# Altium footprint library Passive_Old.PcbLib: 221 footprints (part 13 of 14)
Each footprint in its own frame and in the unit in brackets; x right, y up, seen from the top. Pads: shape width x height; smd on the part's side, far side on the other; paste and mask are expansions set on the pad; w line width, h text height; cw(c..) or ccw(c..) is an arc to the next point about the centre after c.
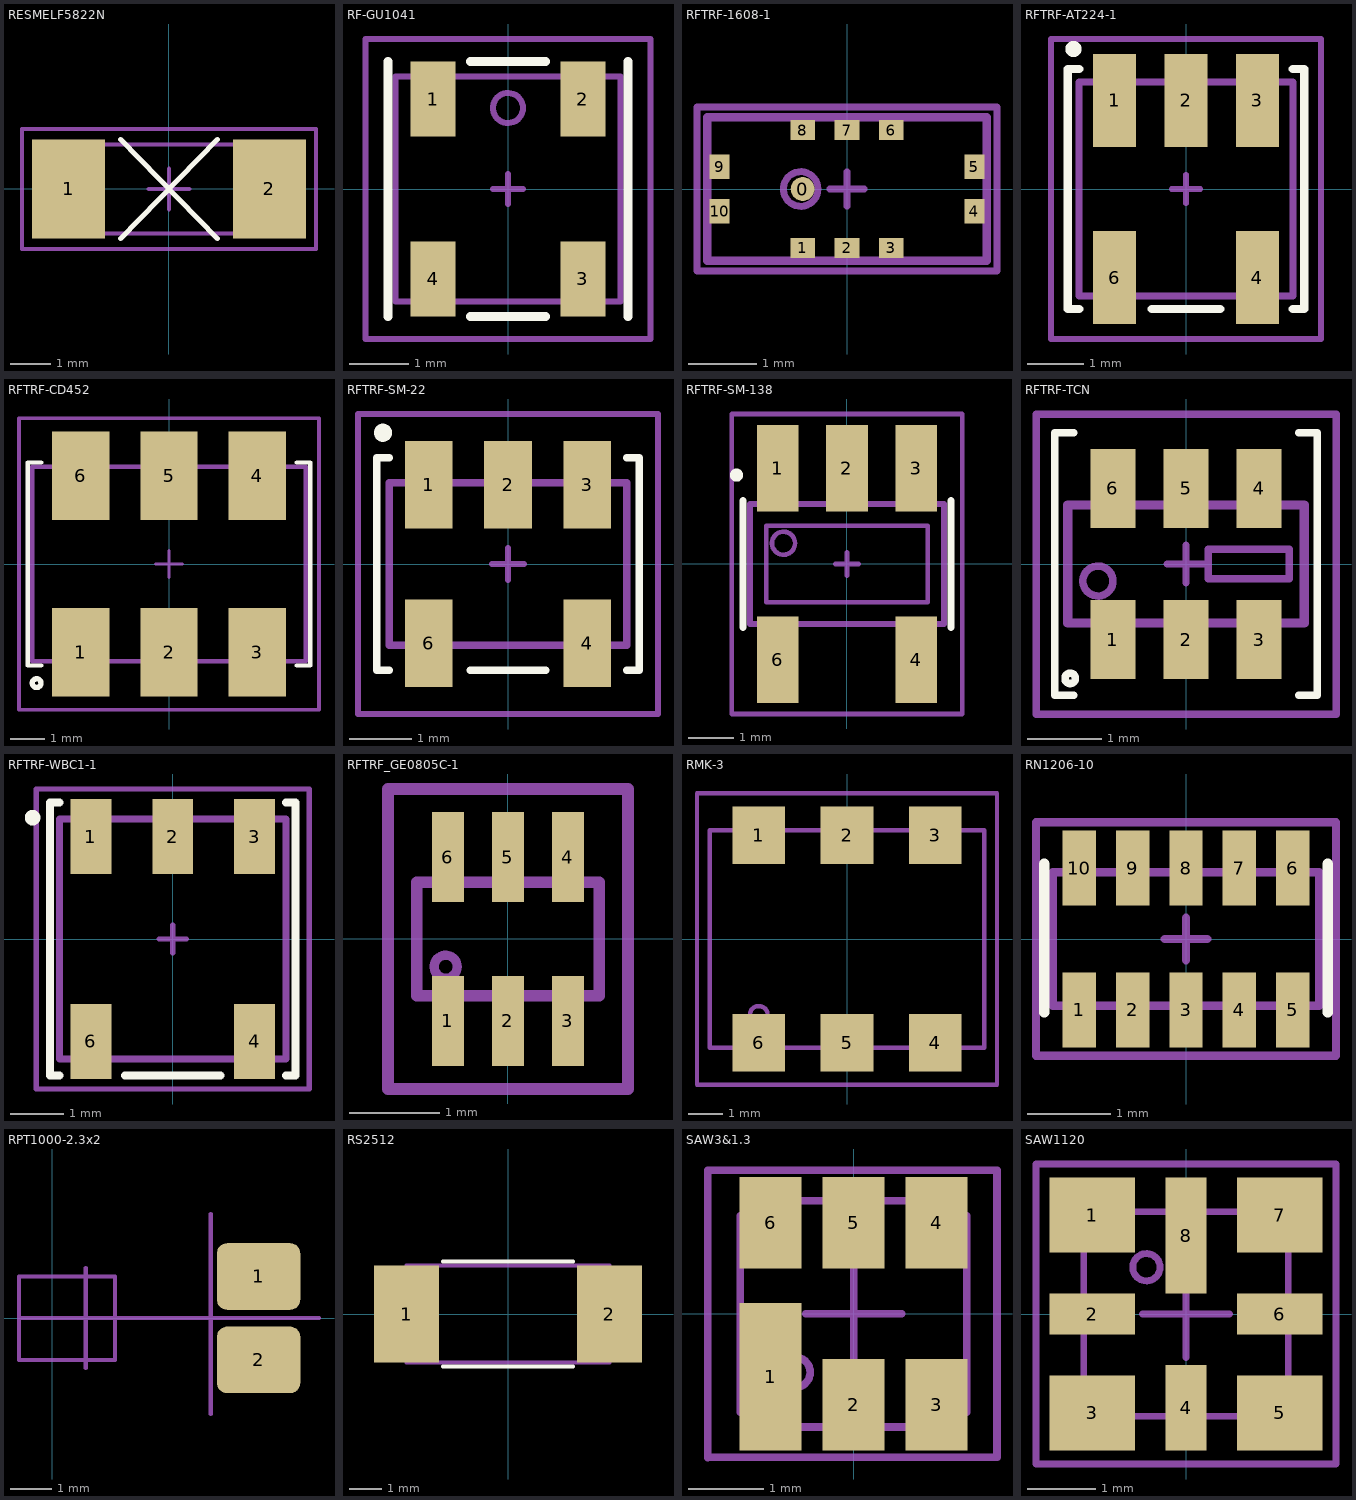
[diagram p12: the footprints below, top view; thin cyan lines are the x and y axes]

## RESMELF5822N [mm] "MELF Resistor, 2-Leads, Body 5,8x2,2mm, IPC Medium Density"
height 2.2
pads (2):
  rect 1.8x2.45 smd: 1(-2.475,0) 2(2.475,0)
Top Overlay:
  lines w0.127: -1.2,1.225 1.2,-1.225 ; -1.2,-1.225 1.2,1.225 -1.2,-1.225
Mechanical 13:
  lines w0.1: -2.9,-1.1 -2.9,1.1 2.9,1.1 2.9,-1.1 -2.9,-1.1
Mechanical 15:
  lines w0.1: -0.5,0 0.5,0 ; 0,-0.5 0,0.5 ; -3.625,-1.475 -3.625,1.475 3.625,1.475 3.625,-1.475 -3.625,-1.475
3D body: height 2.19, standoff 0, extent -2.9,-1.1 -1.8,1.096
3D body: height 2.19, standoff 0, extent 1.8,-1.096 2.9,1.1
3D body: height 2.19, standoff 0, extent -1.8,-1.098 1.8,1.098

## RF-GU1041 [mil] "RF Choke 3.81x3.81mm 4pin"
height 150
pads (4):
  rect 30x50 smd: 1(-50,60) 2(50,60) 3(50,-60) 4(-50,-60)
Top Overlay:
  lines w5.91: -80,-85 -80,85 ; -25,-85 25,-85 ; -25,85 25,85 ; 80,-85 80,85
Mechanical 13:
  circle w4: c0,54 r10
  lines w4: -75,-75 -75,75 75,75 75,-75 -75,-75
Mechanical 15:
  lines w4: -10,0 10,0 ; 0,-10 0,10 ; -95,-100 95,-100 95,100 -95,100 -95,-100
3D body: height 150, standoff 0, extent -75,-75 75,75

## RFTRF-1608-1 [mm] "RF balun 10pin"
height 0.9
pads (11):
  round 0.35 smd: 0(-0.65,0)
  rect 0.36x0.29 smd mask+0.051: 1(-0.65,-0.865) 2(0,-0.865) 3(0.65,-0.865) 6(0.65,0.865) 7(0,0.865) 8(-0.65,0.865)
  rect 0.29x0.36 smd mask+0.051: 4(1.87,-0.325) 5(1.87,0.325) 9(-1.87,0.325) 10(-1.87,-0.325)
Mechanical 13:
  circle w0.102: c-0.679,0 r0.254
  lines w0.127: -2.05,-1.05 -2.05,1.05 2.05,1.05 2.05,-1.05 -2.05,-1.05
Mechanical 15:
  lines w0.1: -0.254,0 0.254,0 ; 0,-0.254 0,0.254
  lines w0.102: -2.2,-1.2 -2.2,1.2 2.2,1.2 2.2,-1.2 -2.2,-1.2
3D body: height 0.88, standoff 0.05, extent -2.05,-1.05 2.05,1.05
3D body: height 0.89, standoff 0.88, extent -0.93,-0.255 -0.42,0.255

## RFTRF-AT224-1 [mil] "RF transformer 5pin"
height 160
pads (5):
  rect 30x65 smd: 1(-50,62) 2(0,62) 3(50,62) 4(50,-62) 6(-50,-62)
Top Overlay:
  circle w5.91: c-78.76,98 r2.76
  lines w5.91: -74.8,-84 -82.68,-84 -82.68,84 -74.8,84 ; -24,-84 24,-84 ; 74.8,-84 82.68,-84 82.68,84 74.8,84
Mechanical 13:
  circle w4: c-50,56 r10
  lines w5: -74.8,-75 -74.8,75 74.8,75 74.8,-75 -74.8,-75
Mechanical 15:
  lines w3.94: -10,0 10,0 ; 0,-10 0,10
  lines w4: -94.49,-105 -94.49,105 94.49,105 94.49,-105 -94.49,-105
3D body: height 31.89, standoff 31.5, extent -60.2,45.8 -39.8,66.2
3D body: height 141.73, standoff 47.24, extent -14.76,-42.32 14.76,42.32
3D body: height 141.73, standoff 47.24, extent 55.12,-42.32 70.87,42.32
3D body: height 141.73, standoff 47.24, extent -70.87,-42.32 -55.12,42.32
3D body: height 157.48, standoff 141.73, extent -70.87,-42.32 70.87,42.32
3D body: height 31.5, standoff 0, extent -75,-75 75,75
3D body: height 47.24, standoff 31.5, extent -70.87,-42.32 70.87,42.32
3D body: height 82.68, standoff 70.87, extent -51.18,-59.05 51.18,59.06
3D body: height 114.17, standoff 102.36, extent -51.18,-59.06 51.18,59.06
3D body: height 66.93, standoff 55.12, extent -51.18,-59.06 51.18,59.06
3D body: height 98.43, standoff 86.61, extent -51.18,-59.06 51.18,59.06
3D body: height 129.92, standoff 118.11, extent -51.18,-59.06 51.18,59.06

## RFTRF-CD452 [mm]
pads (6):
  rect 1.65x2.54 smd: 1(-2.54,-2.54) 2(0,-2.54) 3(2.54,-2.54) 4(2.54,2.54) 5(0,2.54) 6(-2.54,2.54)
Top Overlay:
  circle w0.15: c-3.81,-3.429 r0.127
  lines w0.127: -3.683,-2.921 -4.064,-2.921 -4.064,2.921 -3.683,2.921 ; 3.683,-2.921 4.064,-2.921 4.064,2.921 3.683,2.921
Mechanical 13:
  circle w0.1: c-2.667,-1.905 r0.508
  lines w0.127: -3.937,-2.794 -3.937,2.794 3.937,2.794 3.937,-2.794 -3.937,-2.794
Mechanical 15:
  lines w0.1: -0.381,0 0.381,0 ; 0,-0.381 0,0.381
  lines w0.102: -4.318,-4.191 4.318,-4.191 4.318,4.191 -4.318,4.191 -4.318,-4.191
3D body: height 2.84, standoff 2, extent -3.575,-2.425 -2.563,-1.411
3D body: height 2.84, standoff 0, extent -3.937,-2.794 3.937,2.794

## RFTRF-SM-22 [mil]
height 108.27
pads (5):
  rect 30x55 smd: 1(-50,50) 2(0,50) 3(50,50) 4(50,-50) 6(-50,-50)
Top Overlay:
  circle w5.91: c-78.74,82.68 r2.76
  lines w5: -74.8,-66.93 -82.68,-66.93 -82.68,66.93 -74.8,66.93 ; -23.62,-66.93 23.62,-66.93 ; 74.8,-66.93 82.68,-66.93 82.68,66.93 74.8,66.93
Mechanical 13:
  lines w5: -74.8,-51.18 -74.8,51.18 74.8,51.18 74.8,-51.18 -74.8,-51.18
Mechanical 15:
  lines w3.94: -10,0 10,0 ; 0,-10 0,10
  lines w4: -94.49,-94.49 94.49,-94.49 94.49,94.49 -94.49,94.49 -94.49,-94.49
3D body: height 108.27, standoff 0, extent -74.8,-51.18 74.8,51.18

## RFTRF-SM-138 [mil] "RF balun 5pin"
height 153.54
pads (5):
  rect 36x75 smd: 1(-60,83) 2(0,83) 3(60,83) 4(60,-83) 6(-60,-83)
Top Overlay:
  circle w5.91: c-95.76,77 r2.76
  lines w5.91: -90,-55 -90,55 ; 90,-55 90,55
Mechanical 13:
  circle w4: c-55,18 r10
  lines w4: -69,-52 -69,-105 -51,-105 -51,-52 ; -69,52 -69,105 -51,105 -51,52 ; -9,52 -9,105 9,105 9,52 ; 51,-52 51,-105 69,-105 69,-52 ; 51,52 51,105 69,105 69,52 ; -70,-33 -70,33 70,33 70,-33 -70,-33
  lines w5: -84,-52 84,-52 84,52 -84,52 -84,-52
Mechanical 15:
  lines w3.94: -10,0 10,0 ; 0,-10 0,10
  lines w4: -100,-130 100,-130 100,130 -100,130 -100,-130
3D body: height 141.73, standoff 47.24, extent 55,-33 70,33
3D body: height 67, standoff 20, extent -83,-52 83,52
3D body: height 153.1, standoff 153, extent -64,7.75 -43.61,28.15
3D body: height 141.73, standoff 47.24, extent -14,-33 14,33
3D body: height 141.73, standoff 47.24, extent -70,-33 -55,33
3D body: height 95, standoff 67, extent -70,-33 70,33
3D body: height 153, standoff 125, extent -70,-33 70,33
3D body: height 124, standoff 110, extent -40,-50 40,50
3D body: height 110, standoff 96, extent -40,-50 40,50

## RFTRF-TCN [mm] "RF transformer 6pin"
height 0.89
pads (6):
  rect 0.61x1.07 smd: 1(-0.99,-1.025) 2(0,-1.025) 3(0.99,-1.025) 4(0.99,1.025) 5(0,1.025) 6(-0.99,1.025)
Top Overlay:
  circle w0.102: c-1.569,-1.549 r0.07
  lines w0.102: -1.524,-1.778 -1.778,-1.778 -1.778,1.778 -1.524,1.778 ; 1.524,-1.778 1.778,-1.778 1.778,1.778 1.524,1.778
Mechanical 13:
  circle w0.102: c-1.193,-0.231 r0.203
  lines w0.102: 0.3,-0.2 0.3,0.2 1.4,0.2 1.4,-0.2 0.3,-0.2
  lines w0.127: -1.6,-0.8 1.6,-0.8 1.6,0.8 -1.6,0.8 -1.6,-0.8
Mechanical 15:
  lines w0.1: -0.254,0 0.254,0 ; 0,-0.254 0,0.254
  lines w0.102: -2.032,-2.032 2.032,-2.032 2.032,2.032 -2.032,2.032 -2.032,-2.032
3D body: height 0.9, standoff 0, extent -0.279,-0.813 0.279,-0.508
3D body: height 0.9, standoff 0, extent -0.279,0.508 0.279,0.813
3D body: height 0.9, standoff 0, extent 0.711,0.508 1.27,0.813
3D body: height 0.9, standoff 0, extent 0.711,-0.813 1.27,-0.508
3D body: height 0.9, standoff 0, extent -1.27,-0.813 -0.711,-0.508
3D body: height 0.9, standoff 0, extent -1.27,0.508 -0.711,0.813
3D body: height 0.89, standoff 0, extent -1.6,-0.8 1.6,0.8
3D body: height 0.9, standoff 0.89, extent -1.395,-0.44 -0.986,-0.025
3D body: height 0.9, standoff 0.89, extent 0.3,-0.2 1.4,0.2

## RFTRF-WBC1-1 [mil] "RF transformer 5pin"
height 120
pads (5):
  rect 30x55 smd: 1(-60,75) 2(0,75) 3(60,75) 4(60,-75) 6(-60,-75)
Top Overlay:
  circle w5.91: c-102.76,89 r2.76
  lines w5.91: -83,-100 -90,-100 -90,100 -83,100 ; -35,-100 35,-100 ; 83,-100 90,-100 90,100 83,100
Mechanical 13:
  circle w4: c-60,64 r10
  lines w5: -83,-88 83,-88 83,88 -83,88 -83,-88
Mechanical 15:
  lines w3.94: -10,0 10,0 ; 0,-10 0,10
  lines w4: -100,-110 100,-110 100,110 -100,110 -100,-110
3D body: height 31.89, standoff 31.5, extent -60.2,45.8 -39.8,66.2
3D body: height 141.73, standoff 47.24, extent -14.76,-42.32 14.76,42.32
3D body: height 141.73, standoff 47.24, extent 55.12,-42.32 70.87,42.32
3D body: height 141.73, standoff 47.24, extent -70.87,-42.32 -55.12,42.32
3D body: height 157.48, standoff 141.73, extent -70.87,-42.32 70.87,42.32
3D body: height 31.5, standoff 0, extent -83,-88 83,88
3D body: height 47.24, standoff 31.5, extent -70.87,-42.32 70.87,42.32
3D body: height 82.68, standoff 70.87, extent -51.18,-59.05 51.18,59.06
3D body: height 114.17, standoff 102.36, extent -51.18,-59.06 51.18,59.06
3D body: height 66.93, standoff 55.12, extent -51.18,-59.06 51.18,59.06
3D body: height 98.43, standoff 86.61, extent -51.18,-59.06 51.18,59.06
3D body: height 129.92, standoff 118.11, extent -51.18,-59.06 51.18,59.06

## RFTRF_GE0805C-1 [mil] "6pin"
height 0.84
pads (6):
  rect 14x39 smd: 1(-26,-35.5) 2(0,-35.5) 3(26,-35.5) 4(26,35.5) 5(0,35.5) 6(-26,35.5)
Mechanical 13:
  circle w4: c-27,-12 r5
  lines w5: -39.5,-24.5 39.5,-24.5 39.5,24.5 -39.5,24.5 -39.5,-24.5
Mechanical 15:
  lines w5: -52,-65 -52,65 52,65 52,-65 -52,-65
3D body: height 34, standoff 33, extent -32.41,-17.41 -21.59,-6.59
3D body: height 33, standoff 0, extent -39.5,-24.5 39.5,24.5

## RMK-3 [mil] "Frequency Multiplier 50Ohm Out 900-1200 MHz"
height 159.84
pads (6):
  rect 60x65 smd: 1(-100,117.5) 2(0,117.5) 3(100,117.5) 4(100,-117.5) 5(0,-117.5) 6(-100,-117.5)
Mechanical 13:
  circle w5: c-100,-86 r10
  lines w5: -155.51,-123.03 155.51,-123.03 155.51,123.03 -155.51,123.03 -155.51,-123.03
Mechanical 15:
  lines w5: -170,-165 170,-165 170,165 -170,165 -170,-165
3D body: height 161, standoff 160, extent -110.2,-96.2 -89.8,-75.8
3D body: height 160, standoff 0, extent -155.51,-123.03 155.51,123.03

## RN1206-10 [mm] "Resistor network 8x common R; 1206 10 pin R0.64mm"
height 0.5
pads (10):
  rect 0.4x0.9 smd: 1(-1.28,-0.85) 2(-0.64,-0.85) 3(0,-0.85) 4(0.64,-0.85) 5(1.28,-0.85) 6(1.28,0.85) 7(0.64,0.85) 8(0,0.85) 9(-0.64,0.85) 10(-1.28,0.85)
Top Overlay:
  lines w0.127: -1.7,-0.878 -1.7,0.9 ; 1.7,-0.878 1.7,0.9
Mechanical 13:
  lines w0.1: -1.6,-0.8 1.6,-0.8 1.6,0.8 -1.6,0.8 -1.6,-0.8
Mechanical 15:
  lines w0.1: -0.254,0 0.254,0 ; 0,-0.254 0,0.254
  lines w0.102: -1.8,-1.4 1.8,-1.4 1.8,1.4 -1.8,1.4 -1.8,-1.4
3D body: height 0.5, standoff 0, extent -1.6,-0.8 1.6,0.8
3D body: height 0.51, standoff 0.45, extent -1.6,-0.66 1.6,0.66
3D body: height 0.51, standoff 0, extent 1.095,0.66 1.445,0.835
3D body: height 0.51, standoff 0, extent 0.46,0.66 0.81,0.835
3D body: height 0.51, standoff 0, extent -0.175,0.66 0.175,0.835
3D body: height 0.51, standoff 0, extent -0.81,0.66 -0.46,0.835
3D body: height 0.51, standoff 0, extent -1.445,0.66 -1.095,0.835
3D body: height 0.51, standoff 0, extent 1.095,-0.835 1.445,-0.66
3D body: height 0.51, standoff 0, extent 0.46,-0.835 0.81,-0.66
3D body: height 0.51, standoff 0, extent -0.175,-0.835 0.175,-0.66
3D body: height 0.51, standoff 0, extent -0.81,-0.835 -0.46,-0.66
3D body: height 0.51, standoff 0, extent -1.445,-0.835 -1.095,-0.66

## RPT1000-2.3x2 [mm] "Temp. sensror PT1000 2,3x2mm"
height 1.3
pads (2):
  rrect30% 2x1.6 smd: 1(4.95,1) 2(4.95,-1)
Mechanical 14:
  lines w0.1: 0.8,-1 0.8,1 ; -0.8,-1 1.5,-1 1.5,1 -0.8,1 -0.8,-1
Mechanical 15:
  lines w0.1: -0.8,0 6.4,0 ; 0.8,-1.2 0.8,1.2 ; 3.8,-2.3 3.8,2.5
3D body: height 0.65, standoff 0, extent -0.8,-1 1.5,1
3D body: height 0.3, standoff -0.3, extent 0.8,-0.975 1.475,0.975
3D body: height 0, standoff -1.5, extent 2.401,-0.4 2.6,-0.2
3D body: height 0, standoff -1.5, extent 2.401,0.2 2.6,0.4
3D body: height 0, standoff -0.2, extent 1.5,-0.4 2.5,-0.2
3D body: height 0, standoff -0.2, extent 1.5,0.2 2.5,0.4
3D body: height -1.5, standoff -1.7, extent 2.433,-1.108 3.317,-0.225
3D body: height -1.5, standoff -1.7, extent 3.15,-1.1 5.35,-0.9
3D body: height -1.5, standoff -1.7, extent 3.15,0.901 5.35,1.1
3D body: height -1.5, standoff -1.7, extent 2.433,0.226 3.316,1.109

## RS2512 [mil]
height 19.68
pads (2):
  rect 80x120 smd: 1(-125,0) 2(125,0)
Top Overlay:
  lines w5: -80,-65 80,-65 ; -80,65 80,65
Mechanical 15:
  lines w5: -125,-60 125,-60 125,60 -125,60 -125,-60

## SAW3&1.3 [mm] "SAW filter 3x3 6pin; R1.27mm"
height 1.35
pads (6):
  rect 0.82x1.95 smd: 1(-1.1,-0.835)
  rect 0.82x1.21 smd: 2(0,-1.205) 3(1.1,-1.205) 4(1.1,1.205) 5(0,1.205) 6(-1.1,1.205)
Mechanical 13:
  circle w0.102: c-0.775,-0.775 r0.2
  lines w0.1: -1.5,-1.29 -1.5,1.29 ; -1.29,-1.5 -0.204,-1.5 ; -1.29,1.5 -0.2,1.5 ; 0.204,-1.5 1.292,-1.5 ; 0.204,1.5 1.29,1.5 ; 1.5,-1.292 1.5,1.29
  lines w0.102: -1.5,-1.3 cw(c-1.5,-1.5) -1.3,-1.5 ; -1.5,1.3 ccw(c-1.5,1.5) -1.3,1.5 ; -0.2,-1.5 cw(c0,-1.5) 0.2,-1.5 ; -0.2,1.5 ccw(c0,1.5) 0.2,1.5 ; 1.3,-1.5 cw(c1.5,-1.5) 1.5,-1.3 ; 1.3,1.5 ccw(c1.5,1.5) 1.5,1.3
Mechanical 15:
  lines w0.102: -1.93,-1.905 -1.93,1.9 1.9,1.9 1.9,-1.9 -1.9,-1.9 ; -0.635,0 0.635,0 ; 0,-0.635 0,0.635
3D body: height 1.35, standoff 1.1, extent -1.25,-1.25 1.25,1.25
3D body: height 1.1, standoff 0, extent -1.5,-1.5 1.5,1.5
3D body: height 1.1, standoff 0, extent -0.204,1.292 0.204,1.5
3D body: height 1.1, standoff 0, extent -0.204,-1.5 0.204,-1.292
3D body: height 1.1, standoff 0, extent -1.499,1.291 -1.291,1.499
3D body: height 1.1, standoff 0, extent -1.499,-1.499 -1.291,-1.291
3D body: height 1.1, standoff 0, extent 1.291,-1.499 1.499,-1.291
3D body: height 1.1, standoff 0, extent 1.291,1.291 1.499,1.499
3D body: height 1.37, standoff 1.35, extent -0.979,-0.979 -0.571,-0.571

## SAW1120 [mm] "SAW filter 8 pin 3MM; R1.27mm"
height 1
pads (8):
  rect 1.25x1.1 smd paste-0.5 mask+0.051: 1(-1.375,1.45) 3(-1.375,-1.45) 5(1.375,-1.45) 7(1.375,1.45)
  rect 1.25x0.6 smd paste-0.254 mask+0.051: 2(-1.375,0) 6(1.375,0)
  rect 0.6x1.25 smd paste-0.254 mask+0.051: 4(0,-1.375)
  rect 0.6x1.7 smd paste-0.5 mask+0.051: 8(0,1.15)
Top Paste:
  region: -1,-0.3 -1,0.3 -2,0.3 -2,-0.3
  region: 0.3,-1 -0.3,-1 -0.3,-2 0.3,-2
  region: -0.75,-1.25 -1.15,-1.25 -1.15,-0.9 -2,-0.9 -2,-2 -0.75,-2
  region: 1,0.3 1,-0.3 2,-0.3 2,0.3
  region: -0.3,2 0.3,2 0.3,0.725 -0.3,0.725
  region: 0.75,1.25 1.15,1.25 1.15,0.9 2,0.9 2,2 0.75,2
  region: 0.75,-1.25 1.15,-1.25 1.15,-0.9 2,-0.9 2,-2 0.75,-2
  region: -0.75,1.25 -1.15,1.25 -1.15,0.9 -2,0.9 -2,2 -0.75,2
Mechanical 13:
  circle w0.102: c-0.581,0.686 r0.2
  lines w0.1: -1.5,-1.3 -1.5,-0.2 ; -1.5,0.2 -1.5,1.3 ; -1.3,-1.5 -0.2,-1.5 ; -1.3,1.5 -0.2,1.5 ; 0.2,-1.5 1.3,-1.5 ; 0.2,1.5 1.3,1.5 ; 1.5,-1.3 1.5,-0.2 ; 1.5,0.2 1.5,1.3
  lines w0.102: -1.5,-1.3 cw(c-1.5,-1.5) -1.3,-1.5 ; -1.5,-0.2 ccw(c-1.5,0) -1.5,0.2 ; -1.5,1.3 ccw(c-1.5,1.5) -1.3,1.5 ; -0.2,-1.5 cw(c0,-1.5) 0.2,-1.5 ; -0.2,1.5 ccw(c0,1.5) 0.2,1.5 ; 1.3,-1.5 cw(c1.5,-1.5) 1.5,-1.3 ; 1.3,1.5 ccw(c1.5,1.5) 1.5,1.3 ; 1.5,-0.2 cw(c1.5,0) 1.5,0.2
Mechanical 15:
  lines w0.102: -0.635,0 0.635,0 ; 0,-0.635 0,0.635 ; -2.2,-2.2 2.2,-2.2 2.2,2.2 -2.2,2.2 -2.2,-2.2
3D body: height 1, standoff 0.8, extent -1.3,-1.3 1.3,1.3
3D body: height 0.8, standoff 0, extent -1.499,1.291 -1.291,1.499
3D body: height 0.8, standoff 0, extent -0.204,1.292 0.204,1.5
3D body: height 0.8, standoff 0, extent 1.292,-0.204 1.5,0.204
3D body: height 0.8, standoff 0, extent -0.204,-1.5 0.204,-1.292
3D body: height 0.8, standoff 0, extent -1.5,-0.204 -1.292,0.204
3D body: height 0.8, standoff 0, extent -1.5,-1.5 1.5,1.5
3D body: height 0.8, standoff 0, extent -1.499,-1.499 -1.291,-1.291
3D body: height 0.8, standoff 0, extent 1.291,-1.499 1.499,-1.291
3D body: height 0.8, standoff 0, extent 1.291,1.291 1.499,1.499
3D body: height 1.01, standoff 1, extent -0.791,0.479 -0.377,0.893